# Altium footprint library PHOENIX_MKDS_9.53MM_2x1.PcbLib: 1 footprints
Each footprint in its own frame and in the unit in brackets; x right, y up, seen from the top. Pads: shape width x height; smd on the part's side, far side on the other; paste and mask are expansions set on the pad; w line width, h text height; cw(c..) or ccw(c..) is an arc to the next point about the centre after c.
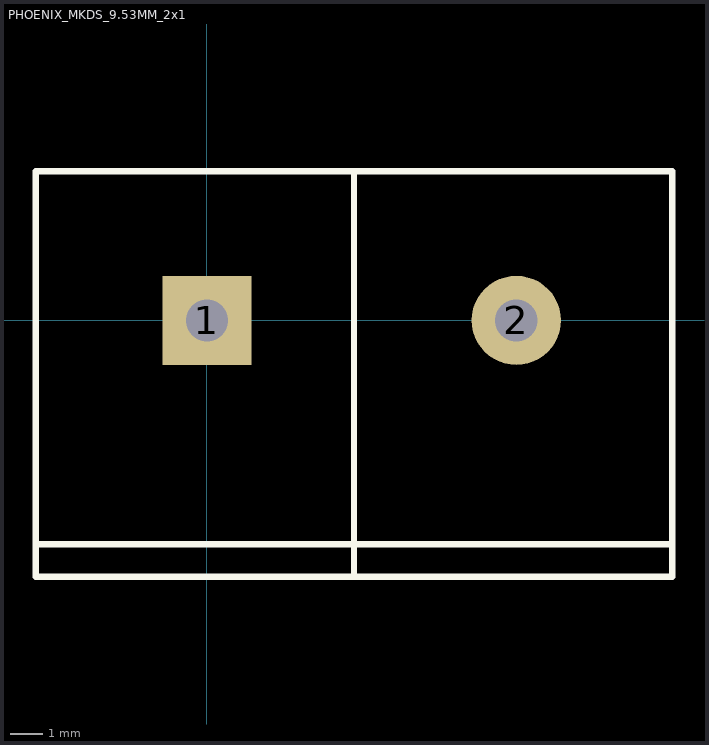
[diagram p0: the footprint, top view; thin cyan lines are the x and y axes]

## PHOENIX_MKDS_9.53MM_2x1 [mm]
pads (2):
  rect 2.75x2.75 hole 1.3: 1(0,0)
  round 2.75 hole 1.3: 2(9.53,0)
Top Overlay:
  lines w0.2: -5.27,-6.9 14.23,-6.9 ; 4.53,-7.9 4.53,4.6 ; -5.27,-7.9 14.33,-7.9 14.33,4.6 -5.27,4.6 -5.27,-7.9
3D body "Phoenix_MKDS_9-53mm_1x02.stp": height 21.5, standoff -5, extent -5.28,-7.9 14.33,4.6
3D body: height 5.15, standoff -5.15, extent 14.13,-7.95 14.13,-7.95